# Altium schematic symbol library Crystals.SchLib: 1 symbol
Pins are listed as number, name and electrical type; pins without a type are passive.

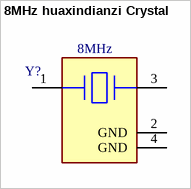
[diagram p0: symbol 8MHz huaxindianzi Crystal]

## 8MHz huaxindianzi Crystal
designator Y?, comment value 8MHz  (hidden comment: CF4008M00012001)
footprint huaxindianzi 8MHz Crystal (8MHz Crystal Oscillator 12pF ±10ppm ±30ppm SMD3225-4P Crystals ROHS)
pins: 1, 2 GND (power), 3, 4 GND (power)